# Altium schematic symbol library Schlib1.SchLib: 16 symbols
Pins are listed as number, name and electrical type; pins without a type are passive.

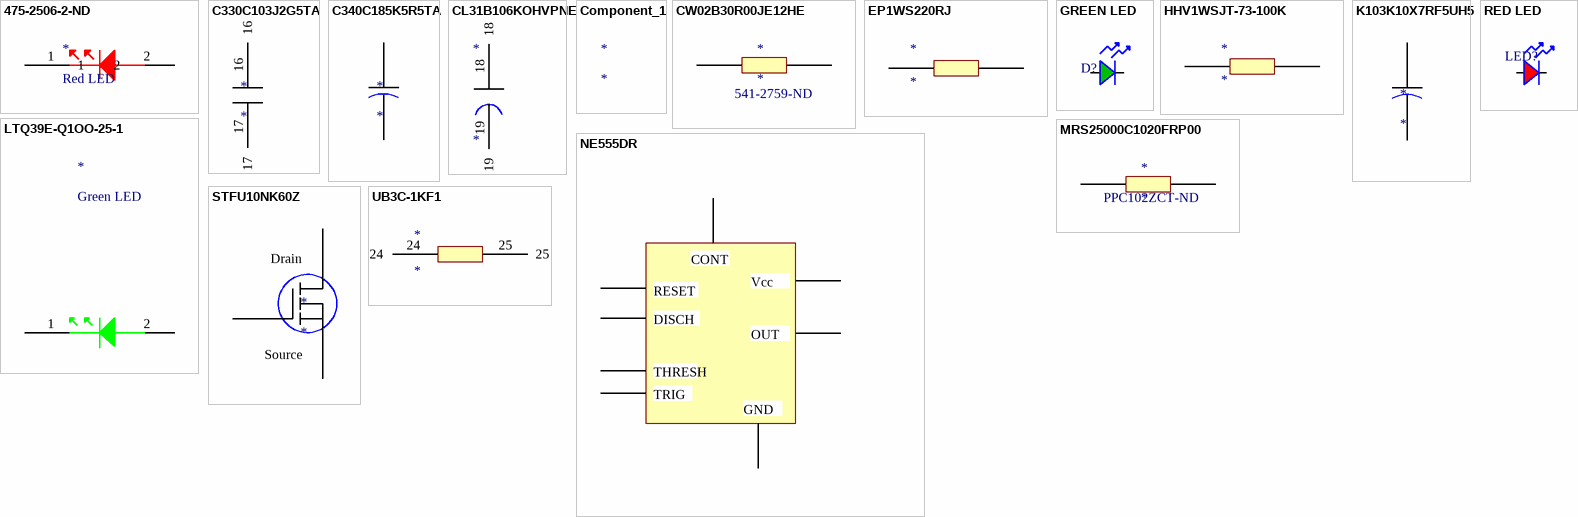
[diagram p0: symbols 475-2506-2-ND to UB3C-1KF1]

## 475-2506-2-ND
designator *, comment Red LED
LED Uni-Color Red 643nm Automotive 2-Pin SMD T/R; Manufacturer: Osram Opto; Manufacturer Part Number: LSL29K-G1J2-1-Z; Lens Color: White; Lens Style: Flat,Diffused,Colorless,Rectangular; Viewing Angle: 160°; Forward Current: 20mA; Forward Voltage: 1.8V; Luminous Intensity: 4.5mcd; Test Current: 2mA; Dominant Wavelength: 630nm; Luminous Flux: 0.017lm; Number of LEDs: 1; Reverse Voltage: 12V; Lens Transparency: Diffused; Lens Size: 0.8mm; Supplier 1: Digi-Key; RoHS: Yes; Category: LEDs; Stock 1: 78683; Pricing 1: 1=0.39000, 10=0.27200, 100=0.15890, 500=0.10898, 1000=0.09082, 2500=0.08174 (USD); Mount: Surface Mount; Case/Package: 0603; Number of Pins: 2; Color: Red; Case Code (Metric): 1608; Case Code (Imperial): 0603; Contact Plating: Tin,Matte; Min Operating Temperature: -40°C; Max Operating Temperature: 100°C; Package Quantity: 5000; Packaging: Tape and Reel; Illumination Color: Red; Length: 1.7mm; Width: 0.8mm; Height: 0.65mm; ComponentLink1URL: https://datasheet.ciiva.com/2112/00077099-0-2112844.pdf?src-supplier=Digi-Key; ComponentLink1Description: https://datasheet.ciiva.com/2112/00077099-0-2112844.pdf?src-supplier=Digi-Key; ComponentLink2URL: https://datasheet.ciiva.com/2112/00077099-0-2112845.pdf?src-supplier=Digi-Key; ComponentLink2Description: https://datasheet.ciiva.com/2112/00077099-0-2112845.pdf?src-supplier=Digi-Key; ComponentLink3URL: https://datasheet.ciiva.com/2112/00077099-0-2112846.pdf?src-supplier=Digi-Key; ComponentLink3Description: https://datasheet.ciiva.com/2112/00077099-0-2112846.pdf?src-supplier=Digi-Key; Supplier Part Number 1: 475-2506-1-ND
footprint GREEN LED
pins: 1, 2

## C330C103J2G5TA
designator *
KEMET 10nF Multilayer Ceramic Capacitor (MLCC) 200 V dc 5% C0G dielectric C SMD max op. temp. +125C; Manufacturer Part Number: C330C103J2G5TA; Temperature Coefficient: 30ppm/°C; Voltage Rating: 200V; Lead/Base Style: Straight; Dissipation Factor: 0.1%; Lead Length: 7mm; Lead Diameter: 0.51mm; Supplier 1: Digi-Key; Manufacturer: KEMET; RoHS: Yes; Category: Ceramic Capacitors; Stock 1: 21656; Pricing 1: 1=1.61000, 10=1.26900, 50=1.09980, 100=0.95180, 500=0.71910, 1000=0.63450, 2500=0.59220, 5000=0.57105 (USD); Mount: Through Hole,PCB; Case/Package: Radial; Number of Pins: 330; Dielectric Material: Ceramic; Min Operating Temperature: -55°C; Max Operating Temperature: 125°C; Package Quantity: 250; Capacitance: 10nF; Tolerance: 5%; Packaging: Bulk; Voltage Rating (DC): 200V; Dielectric: C0G; Termination: Radial; Resistor Type: Ceramic; Voltage: 200V; Length: 7.62mm; Width: 0.15inch; Height: 3.81mm; Lead Pitch: 5.08mm; Height - Seated (Max): 0.36inch; Depth: 3.81mm; Radiation Hardening: No; REACH SVHC: No SVHC; Lead Free: Lead Free; ComponentLink1URL: https://datasheet.ciiva.com/5389/f3101-goldmax-334604-5389660.pdf?src-supplier=Mouser; ComponentLink1Description: https://datasheet.ciiva.com/5389/f3101-goldmax-334604-5389660.pdf?src-supplier=Mouser; ComponentLink2URL: https://datasheet.ciiva.com/7817/706880-7817575.pdf?src-supplier=Element14; ComponentLink2Description: https://datasheet.ciiva.com/7817/706880-7817575.pdf?src-supplier=Element14; Supplier Part Number 1: 399-4385-ND
pins: 16, 17

## C340C185K5R5TA
designator *
Cap Ceramic 1.8uF 50V X7R 10% Radial 5.08mm 125C Bulk; Manufacturer: KEMET; Manufacturer Part Number: C340C185K5R5TA; Dissipation Factor: 2.5%; Supplier 1: Digi-Key; RoHS: Yes; Category: Ceramic Capacitors; Stock 1: 200; Pricing 1: 1=3.18000, 10=2.57100, 50=2.24400, 100=1.96350, 500=1.49600, 1000=1.30900, 2500=1.26225, 5000=1.21550 (USD); Mount: Through Hole; Case/Package: Dipped; Min Operating Temperature: -55°C; Max Operating Temperature: 125°C; Dielectric: X7R; Termination: Radial; Capacitance: 1.8uF; Tolerance: 10%; Packaging: Bulk; Voltage Rating (DC): 50V; Package Quantity: 100; Voltage Rating: 50V; Length: 11.68mm; Width: 10.16mm; Height: 3.81mm; Depth: 3.81mm; Lead Pitch: 5.08mm; Radiation Hardening: No; ComponentLink1URL: http://www.mouser.com/ds/2/212/KEM_C1051_GOLDMAX_Z5U-1140498.pdf?src-supplier=Mouser; ComponentLink1Description: http://www.mouser.com/ds/2/212/KEM_C1051_GOLDMAX_Z5U-1140498.pdf?src-supplier=Mouser; ComponentLink2URL: http://components.arrow.com/part/dataview/42217397S8633275N7429?src-supplier=Arrow+Electronics; ComponentLink2Description: http://components.arrow.com/part/dataview/42217397S8633275N7429?src-supplier=Arrow+Electronics; ComponentLink3URL: http://capacitoredge.kemet.com/capedge2/DataSheet?pn=C340C185K5R5CA&src-supplier=Avnet; ComponentLink3Description: http://capacitoredge.kemet.com/capedge2/DataSheet?pn=C340C185K5R5CA&src-supplier=Avnet; ComponentLink4URL: http://capacitoredge.kemet.com/capedge2/DataSheet?pn=C340C185K5R5CA&src-supplier=Avnet+Europe; ComponentLink4Description: http://capacitoredge.kemet.com/capedge2/DataSheet?pn=C340C185K5R5CA&src-supplier=Avnet+Europe; Supplier Part Number 1: 399-C340C185K5R5TA-ND
footprint Capacitor
pins: 44, 45

## CL31B106KOHVPNE
designator *
Cap Ceramic 10uF 16V X7R 10% SMD 1206 125°C Embossed Plastic T/R; Manufacturer: Samsung; Manufacturer Part Number: CL31B106KOHVPNE; Supplier 1: Digi-Key; RoHS: Yes; Category: Ceramic Capacitors; Stock 1: 193128; Pricing 1: 1=0.51000, 10=0.35400, 50=0.24800, 100=0.21260, 500=0.15946, 1000=0.13466 (USD); Mount: Surface Mount; Case/Package: 1206; Case Code (Metric): 3216; Case Code (Imperial): 1206; Min Operating Temperature: -55°C; Max Operating Temperature: 125°C; Dielectric: X7R; Packaging: Tape and Reel; Capacitance: 10uF; Voltage Rating: 16V; Features: Soft Termination; Tolerance: 10%; Length: 0.126inch; Width: 0.063inch; Thickness: 0.071inch; Ratings: AEC-Q200; ComponentLink1URL: http://www.samsungsem.com/kr/support/library/product-catalog/mlcc.jsp?src-supplier=Digi-Key; ComponentLink1Description: http://www.samsungsem.com/kr/support/library/product-catalog/mlcc.jsp?src-supplier=Digi-Key; ComponentLink2URL: http://www.samsungsem.com/kr/support/product-search/mlcc/CL31B106KOHVPNE.jsp?src-supplier=Digi-Key; ComponentLink2Description: http://www.samsungsem.com/kr/support/product-search/mlcc/CL31B106KOHVPNE.jsp?src-supplier=Digi-Key; ComponentLink3URL: http://www.samsungsem.com/servlet/FileDownload?type=spec&file=CL31B106KOHVPNE.pdf&src-supplier=Avnet; ComponentLink3Description: http://www.samsungsem.com/servlet/FileDownload?type=spec&file=CL31B106KOHVPNE.pdf&src-supplier=Avnet; Supplier Part Number 1: 1276-6797-1-ND
pins: 18, 19

## Component_1
designator *

## CW02B30R00JE12HE
designator *  Supplier Part Number 1: 541-2759-ND
Res, 30R, 5%, 3.75W, Axial, Wirewound; Manufacturer: Vishay; Manufacturer Part Number: CW02B30R00JE12HE; Temperature Coefficient: 30ppm/°C; Supplier 1: Digi-Key; RoHS: Yes; Category: Through-Hole Resistors; Stock 1: 125; Pricing 1: 1=3.03000, 10=2.69000, 25=2.49400, 50=2.34720, 100=2.05380, 250=1.76040, 500=1.46700, 1000=1.27140, 5000=1.23228 (USD); Mount: Through Hole; Case/Package: Axial; Min Operating Temperature: -65°C; Max Operating Temperature: 350°C; Tolerance: 5%; Max Power Dissipation: 3.75W; Packaging: Bulk; Resistance: 30R; Power Rating: 3.75W; Resistor Type: Wirewound; Number of Terminations: 2; Length: 0.562inch; REACH SVHC: Unknown; ComponentLink1URL: http://www.farnell.com/datasheets/2018239.pdf?src-supplier=Farnell; ComponentLink1Description: http://www.farnell.com/datasheets/2018239.pdf?src-supplier=Farnell; ComponentLink2URL: http://www.farnell.com/datasheets/2015622.pdf?src-supplier=Farnell; ComponentLink2Description: http://www.farnell.com/datasheets/2015622.pdf?src-supplier=Farnell; ComponentLink3URL: http://www.vishay.com/docs/30215/cw.pdf?src-supplier=Avnet; ComponentLink3Description: http://www.vishay.com/docs/30215/cw.pdf?src-supplier=Avnet; ComponentLink4URL: http://www.farnell.com/datasheets/2015622.pdf?src-supplier=Element14; ComponentLink4Description: http://www.farnell.com/datasheets/2015622.pdf?src-supplier=Element14; ComponentLink5URL: http://www.farnell.com/datasheets/2018239.pdf?src-supplier=Element14; ComponentLink5Description: http://www.farnell.com/datasheets/2018239.pdf?src-supplier=Element14; ComponentLink6URL: http://www.vishay.com/whatsnew/doc/npi_150701-NPI-Revised-Clean-ANewEdit-Resistors-Dale-CWHighEnergy.pdf?src-supplier=Digi-Key; ComponentLink6Description: http://www.vishay.com/whatsnew/doc/npi_150701-NPI-Revised-Clean-ANewEdit-Resistors-Dale-CWHighEnergy.pdf?src-supplier=Digi-Key
footprint Resistor 100k
pins: 22, 23

## EP1WS220RJ
designator *
RES 220 OHM 1W 5% AXIAL; Manufacturer Part Number: EP1WS220RJ; Manufacturer: TE Connectivity; Resistance: 220R; Voltage Rating: 500V; Temperature Coefficient: 300ppm/°C; Number of Resistors: 1; Lead Length: 28mm; Lead Diameter: 0.54mm; Supplier 1: Digi-Key; RoHS: Yes; Category: Through-Hole Resistors; Stock 1: 2820; Pricing 1: 1=0.35000, 10=0.30000, 25=0.21800, 50=0.15800, 100=0.11710, 250=0.08988, 500=0.07082 (USD); Mount: Axial; Case/Package: Axial; Min Operating Temperature: -55°C; Max Operating Temperature: 155°C; Package Quantity: 1000; Packaging: Tape and Reel; Tolerance: 5%; Power Rating: 1W; Max Power Dissipation: 1W; Resistor Type: Wirewound,Power resistor; Voltage Rating (DC): 500V; Lead/Base Style: Axial; Number of Terminations: 2; Termination: Axial; Features: Flame Retardant Coating; Diameter: 3.5mm; Length: 10mm; REACH SVHC: No SVHC; ComponentLink1URL: https://www.alliedelec.com/m/d/d754661811e97dd040ec2cf962f35524.pdf?src-supplier=Allied+Electronics; ComponentLink1Description: https://www.alliedelec.com/m/d/d754661811e97dd040ec2cf962f35524.pdf?src-supplier=Allied+Electronics; ComponentLink2URL: http://www.farnell.com/datasheets/1610599.pdf?src-supplier=Farnell; ComponentLink2Description: http://www.farnell.com/datasheets/1610599.pdf?src-supplier=Farnell; ComponentLink3URL: http://www.farnell.com/datasheets/1610599.pdf?src-supplier=Element14; ComponentLink3Description: http://www.farnell.com/datasheets/1610599.pdf?src-supplier=Element14; ComponentLink4URL: https://www.te.com/commerce/DocumentDelivery/DDEController?Action=srchrtrv&amp;DocNm=2176045&amp;DocType=Customer+Drawing&amp;DocLang=English&src-supplier=Digi-Key; ComponentLink4Description: https://www.te.com/commerce/DocumentDelivery/DDEController?Action=srchrtrv&amp;DocNm=2176045&amp;DocType=Customer+Drawing&amp;DocLang=English&src-supplier=Digi-Key; Supplier Part Number 1: A129414CT-ND
footprint Resistor 100k
pins: 20, 21

## GREEN LED
designator D?, comment XZDG25X109FS  (value not drawn)
Green 525nm LED Indication - Discrete 3.5V 1411 (3528 Metric); Supplier 1: Digikey; Supplier Part Number 1: 1497-1345-1-ND
footprint GREEN LED
pins: 1, 2

## HHV1WSJT-73-100K
designator *
Res 100K Ohm 1W 5% Axial; Manufacturer: Yageo; Manufacturer Part Number: HHV1WSJT-73-100K; Resistance: 100kR; Supplier 1: Digi-Key; RoHS: Yes; Category: Through-Hole Resistors; Stock 1: 2598; Pricing 1: 1=0.60000, 10=0.45900, 25=0.34920, 50=0.25960, 100=0.19300, 250=0.16304, 500=0.13974 (USD); Case/Package: Axial; Min Operating Temperature: -55°C; Max Operating Temperature: 155°C; Tolerance: 5%; Features: Flame Retardant Coating; Package Quantity: 1; Packaging: Tape and Reel; Resistor Type: Metal Film; Number of Terminations: 2; Max Power Dissipation: 1W; Length: 0.453inch; ComponentLink1URL: https://datasheet.ciiva.com/2722/yageolr-hhv-2013-2722347.pdf?src-supplier=Digi-Key; ComponentLink1Description: https://datasheet.ciiva.com/2722/yageolr-hhv-2013-2722347.pdf?src-supplier=Digi-Key; ComponentLink2URL: https://datasheet.ciiva.com/2722/yageolr-hhv-2013-2722346.pdf?src-supplier=Digi-Key; ComponentLink2Description: https://datasheet.ciiva.com/2722/yageolr-hhv-2013-2722346.pdf?src-supplier=Digi-Key; Supplier Part Number 1: 100KBJCT-ND
footprint Resistor 100k
pins: 22, 23

## K103K10X7RF5UH5
designator *
CAP CER 10000PF 50V X7R RADIAL; Manufacturer: Vishay BCcomponents; Manufacturer Part Number: K103K10X7RF5UH5; Lead/Base Style: Formed Leads; Capacitance: 10nF; Tolerance: 10%; Supplier 1: Digi-Key; RoHS: Yes; Category: Ceramic Capacitors; Stock 1: 34049; Pricing 1: 1=0.18000, 10=0.12000, 50=0.07180, 100=0.06060, 500=0.04150, 1000=0.03671 (USD); Mount: Through Hole; Case/Package: Dipped; Weight: 0.003527oz; Min Operating Temperature: -55°C; Max Operating Temperature: 125°C; Package Quantity: 1; Voltage Rating: 50V; Packaging: Ammo Pack; Termination: Radial; Voltage Rating (DC): 50V; Dielectric: X7R; Diameter: 500um; Length: 0.142inch; Width: 0.091inch; Lead Pitch: 0.197inch; Height - Seated (Max): 0.242inch; Depth: 2.3mm; Radiation Hardening: No; ComponentLink1URL: https://datasheet.ciiva.com/16624/kseries-16624262.pdf?src-supplier=Avnet+Europe; ComponentLink1Description: https://datasheet.ciiva.com/16624/kseries-16624262.pdf?src-supplier=Avnet+Europe; ComponentLink2URL: https://datasheet.ciiva.com/145/kseries-145331.pdf?src-supplier=Digi-Key; ComponentLink2Description: https://datasheet.ciiva.com/145/kseries-145331.pdf?src-supplier=Digi-Key; ComponentLink3URL: https://datasheet.ciiva.com/145/kseries-145332.pdf?src-supplier=Digi-Key; ComponentLink3Description: https://datasheet.ciiva.com/145/kseries-145332.pdf?src-supplier=Digi-Key; ComponentLink4URL: https://datasheet.ciiva.com/11591/kseries-11591663.pdf?src-supplier=Avnet; ComponentLink4Description: https://datasheet.ciiva.com/11591/kseries-11591663.pdf?src-supplier=Avnet; Supplier Part Number 1: BC2662CT-ND
footprint Capacitor
pins: 46, 47

## LTQ39E-Q1OO-25-1
designator *, comment Green LED
LED GREEN DIFFUSED 0603 SMD; Manufacturer: Osram Opto; Manufacturer Part Number: LTQ39E-Q1OO-25-1; Lens Color: White; Number of LEDs: 1; Lens Style: Flat,Diffused,Colorless,Rectangular; Viewing Angle: 130°; Luminous Intensity: 175.5mcd; Forward Current: 15mA; Forward Voltage: 2.85V; Luminous Flux: 0.34lm; Test Current: 5mA; Dominant Wavelength: 530nm; Lens Size: 0.8mm; Supplier 1: Digi-Key; RoHS: Yes; Category: LEDs; Stock 1: 13203; Pricing 1: 1=0.53000, 10=0.38200, 100=0.24930, 500=0.17918, 1000=0.14022 (USD); Mount: Surface Mount; Case/Package: SMD/SMT; Number of Pins: 2; Case Code (Imperial): 0603; Case Code (Metric): 1608; Color: Green; Min Operating Temperature: -40°C; Max Operating Temperature: 85°C; Lens Transparency: Diffused; Package Quantity: 16000; Packaging: Tape and Reel; Number of Elements: 1; Length: 1.6mm; Width: 0.8mm; Depth: 0.9mm; Radiation Hardening: No; ComponentLink1URL: http://www.mouser.com/ds/2/311/LT%20Q39E%20-%20CHIPLED%200603-318171.pdf?src-supplier=Mouser; ComponentLink1Description: http://www.mouser.com/ds/2/311/LT%20Q39E%20-%20CHIPLED%200603-318171.pdf?src-supplier=Mouser; ComponentLink2URL: http://components.arrow.com/part/dataview/48286240S9138660N2128?src-supplier=Arrow+Electronics; ComponentLink2Description: http://components.arrow.com/part/dataview/48286240S9138660N2128?src-supplier=Arrow+Electronics; ComponentLink3URL: http://www.osram-os.com/Graphics/XPic7/00185661_0.pdf/LT%20Q39E%20-%20CHIPLED%200603.pdf?src-supplier=Avnet; ComponentLink3Description: http://www.osram-os.com/Graphics/XPic7/00185661_0.pdf/LT%20Q39E%20-%20CHIPLED%200603.pdf?src-supplier=Avnet; ComponentLink4URL: http://catalog.osram-os.com/jsp/download.jsp?rootPath=/media/&name=LB_LT_Q39E.pdf&docPath=Graphics/00052413_0.pdf&url=/media//_en/Graphics/00052413_0.pdf&src-supplier=Avnet; ComponentLink4Description: http://catalog.osram-os.com/jsp/download.jsp?rootPath=/media/&name=LB_LT_Q39E.pdf&docPath=Graphics/00052413_0.pdf&url=/media//_en/Graphics/00052413_0.pdf&src-supplier=Avnet; ComponentLink5URL: https://dammedia.osram.info/media/resource/hires/osram-dam-2493475/LT%20Q39E.pdf?src-supplier=Digi-Key; ComponentLink5Description: https://dammedia.osram.info/media/resource/hires/osram-dam-2493475/LT%20Q39E.pdf?src-supplier=Digi-Key; ComponentLink6URL: http://www.osram-os.com/Graphics/XPic7/00185661_0.pdf?src-supplier=Digi-Key; ComponentLink6Description: http://www.osram-os.com/Graphics/XPic7/00185661_0.pdf?src-supplier=Digi-Key; Supplier Part Number 1: 475-3441-1-ND
pins: 1, 2

## MRS25000C1020FRP00
designator *  Supplier Part Number 1: PPC102ZCT-ND
RES 102 OHM 0.6W 1% AXIAL; Manufacturer: Vishay BCcomponents; Manufacturer Part Number: MRS25000C1020FRP00; Max Power Dissipation: 600mW; Resistance: 102R; Voltage Rating: 350V; Temperature Coefficient: 50ppm/°C; Lead Diameter: 0.6mm; Supplier 1: Digi-Key; RoHS: Yes; Category: Through-Hole Resistors; Stock 1: 59; Pricing 1: 1=0.26000, 10=0.22000, 25=0.16000, 50=0.11600, 100=0.08600, 250=0.06600, 500=0.05200, 1000=0.03600 (USD); Mount: Through Hole; Case/Package: Axial; Contact Plating: Tin; Min Operating Temperature: -55°C; Max Operating Temperature: 155°C; Power Rating: 600mW; Tolerance: 1%; Package Quantity: 1; Packaging: Tape and Reel; Termination: Axial; Resistor Type: Thin Film,Metal Film; Number of Terminations: 2; Diameter: 2.5mm; Length: 6.5mm; Width: 2.5mm; Lead Free: Lead Free; ComponentLink1URL: https://datasheet.ciiva.com/5610/mrs16m25-239694-5610629.pdf?src-supplier=Mouser; ComponentLink1Description: https://datasheet.ciiva.com/5610/mrs16m25-239694-5610629.pdf?src-supplier=Mouser; ComponentLink2URL: https://datasheet.ciiva.com/2710/mrs16m25-2710840.pdf?src-supplier=Digi-Key; ComponentLink2Description: https://datasheet.ciiva.com/2710/mrs16m25-2710840.pdf?src-supplier=Digi-Key; ComponentLink3URL: https://datasheet.ciiva.com/2710/mrs16m25-2710841.pdf?src-supplier=Digi-Key; ComponentLink3Description: https://datasheet.ciiva.com/2710/mrs16m25-2710841.pdf?src-supplier=Digi-Key; ComponentLink4URL: https://datasheet.ciiva.com/8398/mrs16m25-8398239.pdf?src-supplier=Avnet; ComponentLink4Description: https://datasheet.ciiva.com/8398/mrs16m25-8398239.pdf?src-supplier=Avnet
footprint Resistor 100k
pins: 22, 23

## NE555DR
designator *, comment 555 Timer
TEXAS INSTRUMENTS         NE555DR.             TIMER, SINGLE, 500KHZ, 16V, SOIC-8; Min Supply Voltage: 4.5V; Frequency: 100kHz; Number of Timers/Counters: 1; Operating Supply Current: 10mA; High Level Output Current: -200mA; Low Level Output Current: 200mA; Quiescent Current: 15mA; Supplier 1: Digi-Key; Manufacturer: Texas Instruments; Manufacturer Part Number: NE555DR; RoHS: Yes; Category: Timers and Oscillators; Stock 1: 41325; Pricing 1: 1=0.36000, 10=0.27500, 25=0.24760, 100=0.17100, 250=0.14400, 500=0.11700, 1000=0.09000 (USD); Mount: Surface Mount; Case/Package: SOIC; Number of Pins: 8; Weight: 0.002561oz; Contact Plating: Gold; Min Operating Temperature: 0°C; Max Operating Temperature: 70°C; Max Supply Voltage: 16V; Packaging: Tape and Reel; Package Quantity: 2500; Length: 4.9mm; Width: 3.91mm; Height: 1.58mm; Radiation Hardening: No; REACH SVHC: No SVHC; Lead Free: Lead Free; ComponentLink1URL: https://datasheet.ciiva.com/26251/se555m-26251288.pdf?src-supplier=Avnet+Europe; ComponentLink1Description: https://datasheet.ciiva.com/26251/se555m-26251288.pdf?src-supplier=Avnet+Europe; ComponentLink2URL: https://datasheet.ciiva.com/16465/se555m-16465210.pdf?src-supplier=Avnet+Asia; ComponentLink2Description: https://datasheet.ciiva.com/16465/se555m-16465210.pdf?src-supplier=Avnet+Asia; ComponentLink3URL: https://datasheet.ciiva.com/1233/ne555-1233131.pdf?src-supplier=Digi-Key; ComponentLink3Description: https://datasheet.ciiva.com/1233/ne555-1233131.pdf?src-supplier=Digi-Key; ComponentLink4URL: https://datasheet.ciiva.com/1139/1874740-1139901.pdf?src-supplier=Element14; ComponentLink4Description: https://datasheet.ciiva.com/1139/1874740-1139901.pdf?src-supplier=Element14; ComponentLink5URL: https://datasheet.ciiva.com/1233/ne555-1233133.pdf?src-supplier=Digi-Key; ComponentLink5Description: https://datasheet.ciiva.com/1233/ne555-1233133.pdf?src-supplier=Digi-Key; Supplier Part Number 1: 296-6501-1-ND
footprint DIP8
pins: 36, 37, 38, 39, 40, 41, 42, 43
text: CONT; Vcc; RESET; DISCH; OUT; THRESH; TRIG; GND

## RED LED
designator LED?, comment OVS5MRBCR4  (value not drawn)
Red 625nm LED Indication - Discrete 2.2V 2-SMD, No Lead; Supplier 1: Digikey; Supplier Part Number 1: 365-1546-1-ND
footprint RED LED
pins: 1, 2 s

## STFU10NK60Z
designator *
N-channel 600 V, 0.68 Ohm typ., 10 A SuperMESH Power MOSFET in TO-220FP ultra narrow leads package; Manufacturer: STMicroelectronics; Manufacturer Part Number: STFU10NK60Z; Drain to Source Voltage (Vdss): 600V; Continuous Drain Current (ID): 10A; Rds On Max: 750mR; Input Capacitance: 1.37nF; Max Power Dissipation: 35W; Supplier 1: Digi-Key; RoHS: No; Stock 1: 1889; Pricing 1: 1=1.25000, 10=1.12100, 25=1.06400, 100=0.79800, 500=0.67640, 1000=0.55100, 2500=0.54340, 5000=0.49400, 9000=0.47120 (USD); Mount: Through Hole; Case/Package: TO-220-3; Min Operating Temperature: -55°C; Max Operating Temperature: 150°C; ComponentLink1URL: http://www.st.com/content/ccc/resource/technical/document/datasheet/group1/9e/e8/14/9d/19/25/4e/12/DM00256590/files/DM00256590.pdf/jcr:content/translations/en.DM00256590.pdf?src-supplier=Digi-Key; ComponentLink1Description: http://www.st.com/content/ccc/resource/technical/document/datasheet/group1/9e/e8/14/9d/19/25/4e/12/DM00256590/files/DM00256590.pdf/jcr:content/translations/en.DM00256590.pdf?src-supplier=Digi-Key; Supplier Part Number 1: 497-STFU10NK60Z-ND
footprint PCBComponent_1 - duplicate
pins: 1, 2, 3
text: Drain; Gate; Source

## UB3C-1KF1
designator *
RES AXIAL 1.0K OHM 1% 3W; Manufacturer: Riedon; Manufacturer Part Number: UB3C-1KF1; Temperature Coefficient: 20ppm/°C; Resistance: 1kR; 1K: 696-1015-ND; Supplier 1: Digi-Key; RoHS: Yes; Category: Through-Hole Resistors; Stock 1: 236; Pricing 1: 1=0.92000, 10=0.79500, 25=0.69880, 50=0.63860, 100=0.55430, 250=0.48200, 500=0.40006, 1000=0.32535, 5000=0.31041 (USD); Case/Package: Axial; Min Operating Temperature: -55°C; Max Operating Temperature: 250°C; Tolerance: 1%; Packaging: Bulk; Max Power Dissipation: 3W; Features: Moisture Resistant; Resistor Type: Wirewound; Number of Terminations: 2; Package Quantity: 250; Length: 0.35inch; ComponentLink1URL: https://datasheet.ciiva.com/18577/ub-18577022.pdf?src-supplier=Digi-Key; ComponentLink1Description: https://datasheet.ciiva.com/18577/ub-18577022.pdf?src-supplier=Digi-Key
pins: 24, 25